# Altium footprint library LTC3260.PcbLib: 4 footprints
Each footprint in its own frame and in the unit in brackets; x right, y up, seen from the top. Pads: shape width x height; smd on the part's side, far side on the other; paste and mask are expansions set on the pad; w line width, h text height; cw(c..) or ccw(c..) is an arc to the next point about the centre after c.
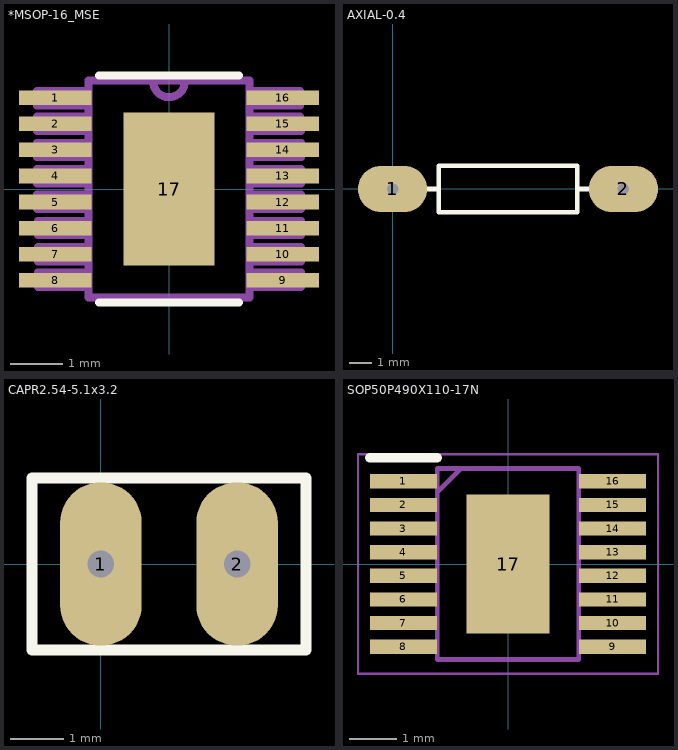
[diagram p0: the footprints below, top view; thin cyan lines are the x and y axes]

## *MSOP-16_MSE [mil]
pads (17):
  rect 55x11 smd: 1(-86,68.95) 2(-86,49.25) 3(-86,29.55) 4(-86,9.85) 5(-86,-9.85) 6(-86,-29.55) 7(-86,-49.25) 8(-86,-68.95) 9(86,-68.95) 10(86,-49.25) 11(86,-29.55) 12(86,-9.85) 13(86,9.85) 14(86,29.55) 15(86,49.25) 16(86,68.95)
  rect 69x116 smd: 17(0,0)
Top Overlay:
  lines w6: -53,-86 53,-86 ; -53,86 53,86
Top Paste:
  region: -30.56,54.06 -30.56,3.94 30.56,3.94 30.56,54.06
  region: -30.56,-3.94 -30.56,-54.06 30.56,-54.06 30.56,-3.94
Mechanical 4:
  lines w6: -100,-15 -100,-4 ; -100,-15 -61,-15 ; -100,-15 -100,-4 ; -100,-15 -61,-15 ; -100,-4 -61,-4 ; -100,-4 -61,-4 ; -100,4 -100,15 ; -100,4 -61,4 ; -100,4 -100,15 ; -100,4 -61,4 ; -100,15 -61,15 ; -100,15 -61,15 ; -100,24 -100,35 ; -100,24 -61,24 ; -100,24 -100,35 ; -100,24 -61,24 ; -100,35 -61,35 ; -100,35 -61,35 ; -100,44 -100,55 ; -100,44 -61,44 ; -100,44 -100,55 ; -100,44 -61,44 ; -100,55 -61,55 ; -100,55 -61,55 ; -100,63 -100,74 ; -100,63 -61,63 ; -100,63 -100,74 ; -100,63 -61,63 ; -100,74 -61,74 ; -100,74 -61,74 ; -99,-74 -99,-63 ; -99,-74 -61,-74 ; -99,-74 -99,-63 ; -99,-74 -61,-74 ; -99,-63 -61,-63 ; -99,-63 -61,-63 ; -99,-55 -99,-44 ; -99,-55 -61,-55 ; -99,-55 -99,-44 ; -99,-55 -61,-55 ; -99,-44 -61,-44 ; -99,-44 -61,-44 ; -99,-35 -99,-24 ; -99,-35 -61,-35 ; -99,-35 -99,-24 ; -99,-35 -61,-35 ; -99,-24 -61,-24 ; -99,-24 -61,-24 ; -61,-82 61,-82 ; -61,-82 -61,82 ; -61,-82 61,-82 ; -61,-82 -61,82 ; -61,-74 -61,-63 ; -61,-74 -61,-63 ; -61,-55 -61,-44 ; -61,-55 -61,-44 ; -61,-35 -61,-24 ; -61,-35 -61,-24 ; -61,-15 -61,-4 ; -61,-15 -61,-4 ; -61,4 -61,15 ; -61,4 -61,15 ; -61,24 -61,35 ; -61,24 -61,35 ; -61,44 -61,55 ; -61,44 -61,55 ; -61,63 -61,74 ; -61,63 -61,74 ; -61,82 12,82 ; -61,82 12,82 ; 12,82 61,82 ; 12,82 61,82 ; 61,-82 61,82 ; 61,-82 61,82 ; 61,-74 61,-63 ; 61,-74 100,-74 ; 61,-74 61,-63 ; 61,-74 100,-74 ; 61,-63 100,-63 ; 61,-63 100,-63 ; 61,-55 61,-44 ; 61,-55 100,-55 ; 61,-55 61,-44 ; 61,-55 100,-55 ; 61,-44 100,-44 ; 61,-44 100,-44 ; 61,-35 61,-24 ; 61,-35 100,-35 ; 61,-35 61,-24 ; 61,-35 100,-35 ; 61,-24 100,-24 ; 61,-24 100,-24 ; 61,-15 61,-4 ; 61,-15 100,-15 ; 61,-15 61,-4 ; 61,-15 100,-15 ; 61,-4 100,-4 ; 61,-4 100,-4 ; 61,4 61,15 ; 61,4 100,4 ; 61,4 61,15 ; 61,4 100,4 ; 61,15 100,15 ; 61,15 100,15 ; 61,24 61,35 ; 61,24 100,24 ; 61,24 61,35 ; 61,24 100,24 ; 61,35 100,35 ; 61,35 100,35 ; 61,44 61,55 ; 61,44 100,44 ; 61,44 61,55 ; 61,44 100,44 ; 61,55 99,55 ; 61,55 99,55 ; 61,63 61,74 ; 61,63 99,63 ; 61,63 61,74 ; 61,63 99,63 ; 61,74 99,74 ; 61,74 99,74 ; 99,55 100,44 ; 99,55 100,44 ; 99,63 99,74 ; 99,63 99,74 ; 100,-74 100,-63 ; 100,-74 100,-63 ; 100,-55 100,-44 ; 100,-55 100,-44 ; 100,-35 100,-24 ; 100,-35 100,-24 ; 100,-15 100,-4 ; 100,-15 100,-4 ; 100,4 100,15 ; 100,4 100,15 ; 100,24 100,35 ; 100,24 100,35 ; -12,81.08 ccw(c0,81.5) 12,81.92 cw(c0,81.5) -12,81.08

## AXIAL-0.4 [mil] "Resistor; 2 Leads"
height 80
pads (2):
  oval 120x80 hole 19.68: 1(0,0) 2(400,0)
Top Overlay:
  lines w7.87: 40,0 80,0 ; 320,0 360,0 ; 80,-40 80,40 320,40 320,-40 80,-40

## CAPR2.54-5.1x3.2 [mil] "Capacitor, Ceramic, Thru-Hole, Dipped Radial; Body 5.1 x 3.2 mm (WxT) Pin Spacing 2.54 mm (typ)"
height 236.22
pads (2):
  oval 60x120 hole 19.68: 1(0,0) 2(100,0)
Top Overlay:
  lines w7.87: -50.39,-62.99 150.39,-62.99 150.39,62.99 -50.39,62.99 -50.39,-62.99

## SOP50P490X110-17N [mm]
pads (17):
  rect 1.425x0.3 smd: 1(-2.212,1.75) 2(-2.212,1.25) 3(-2.212,0.75) 4(-2.212,0.25) 5(-2.212,-0.25) 6(-2.212,-0.75) 7(-2.212,-1.25) 8(-2.212,-1.75) 9(2.212,-1.75) 10(2.212,-1.25) 11(2.212,-0.75) 12(2.212,-0.25) 13(2.212,0.25) 14(2.212,0.75) 15(2.212,1.25) 16(2.212,1.75)
  rect 1.753x2.947 smd: 17(0,0)
Top Overlay:
  lines w0.2: -2.925,2.25 -1.5,2.25
Mechanical 13:
  lines w0.1: -1.5,1.52 -1,2.02 ; -1.5,-2.02 -1.5,2.02 1.5,2.02 1.5,-2.02 -1.5,-2.02
Mechanical 15:
  lines w0.05: -3.175,-2.32 -3.175,2.32 3.175,2.32 3.175,-2.32 -3.175,-2.32
3D body "LTC3260EMSE#PBF.stp": height 1.1, standoff 0, extent -2.45,-2.02 2.45,2.02